# Altium footprint library 1128.PcbLib: 1 footprints
Each footprint in its own frame and in the unit in brackets; x right, y up, seen from the top. Pads: shape width x height; smd on the part's side, far side on the other; paste and mask are expansions set on the pad; w line width, h text height; cw(c..) or ccw(c..) is an arc to the next point about the centre after c.
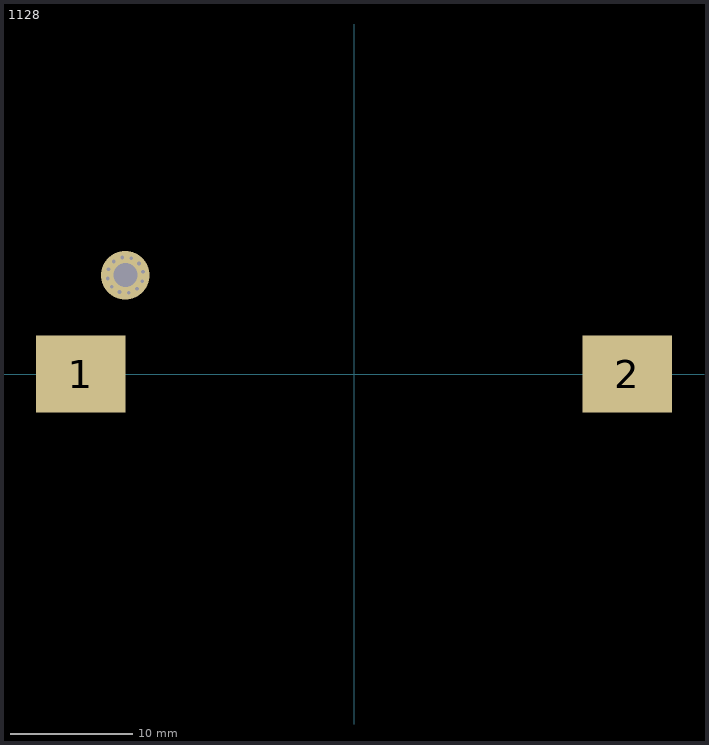
[diagram p0: the footprint, top view; thin cyan lines are the x and y axes]

## 1128 [mm]
pads (2):
  rect 7.34x6.35 smd: 1(-22.405,0) 2(22.405,0)
via -18.465,6.657 diameter 0.4 hole 0.3
via -19.223,6.715 diameter 0.4 hole 0.3
via -19.85,7.145 diameter 0.4 hole 0.3
via -20.178,7.83 diameter 0.4 hole 0.3
via -20.12,8.588 diameter 0.4 hole 0.3
via -19.69,9.215 diameter 0.4 hole 0.3
via -19.005,9.543 diameter 0.4 hole 0.3
via -18.247,9.485 diameter 0.4 hole 0.3
via -17.62,9.055 diameter 0.4 hole 0.3
via -17.292,8.37 diameter 0.4 hole 0.3
via -17.35,7.612 diameter 0.4 hole 0.3
via -17.78,6.985 diameter 0.4 hole 0.3
via -18.735,8.1 diameter 3.96 hole 1.98